# EAGLE library part SN74LS04N (library SN74LS04N)
Hex inverter,SN74LS04N DIP14 25pcs Source: Datasheet <http://www.ti.com/lit/gpn/sn74ls04>
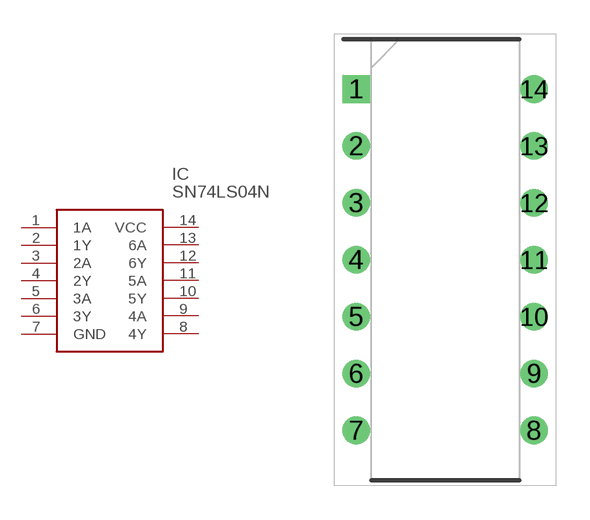
[diagram p0: symbol with the pads of DIP794W53P254L1930H508Q14N; footprint DIP794W53P254L1930H508Q14N]

Designator prefix IC

## SN74LS04N (Arrow_Part_Number: SN74LS04N; Arrow_Price-Stock: https://www.arrow.com/en/products/sn74ls04n/texas-instruments; Description: Hex inverter,SN74LS04N DIP14 25pcs; Height: 5.08mm; Manufacturer_Name: Texas Instruments; Manufacturer_Part_Number: SN74LS04N; Mouser_Part_Number: 595-SN74LS04N; Mouser_Price-Stock: https://www.mouser.co.uk/ProductDetail/Texas-Instruments/SN74LS04N?qs=spW5eSrOWB4DgGWIHPxzvg%3D%3D)  [DIP794W53P254L1930H508Q14N]
1  1A
2  1Y
3  2A
4  2Y
5  3A
6  3Y
7  GND
8  4Y
9  4A
10  5Y
11  5A
12  6Y
13  6A
14  VCC

## Footprint DIP794W53P254L1930H508Q14N (pad centres in mm)
SN74LS04N
drill 0.73 pad 1.13 square: 1 -3.97,7.62
drill 0.73 pad 1.13: 2 -3.97,5.08; 3 -3.97,2.54; 4 -3.97,0; 5 -3.97,-2.54; 6 -3.97,-5.08; 7 -3.97,-7.62; 8 3.97,-7.62; 9 3.97,-5.08; 10 3.97,-2.54; 11 3.97,0; 12 3.97,2.54; 13 3.97,5.08; 14 3.97,7.62